# Altium schematic symbol library HTSW-105-07-L-S.SchLib: 2 symbols
Pins are listed as number, name and electrical type; pins without a type are passive.

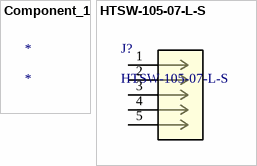
[diagram p0: symbols Component_1 to HTSW-105-07-L-S]

## Component_1
designator *

## HTSW-105-07-L-S
designator J?
No Description Available; Mfr_Name: Samtec Inc; Copyright: Copyright (C) 2022 Ultra Librarian. All rights reserved.; Manufacturer_Part_Number: HTSW-105-07-L-S; Digi-Key_Part_Number_1: SAM11370-ND; RefDes: RefDes; Type: DEV
footprint CON5_1X5_TU_TSW
pins: 1, 2, 3, 4, 5